# EAGLE library part 685119136923 (library WR-HDMI)
WR-COM Mini HDMI SMT Horizontal <https://www.we-online.com/components/media/o33017v209%20Family_WR-COM_685119136923.jpg> Details see: www.we-online.com/en/components/products/COM_MINI_SMT_HORIZONTAL <www.we-online.com/catalog/COM_MINI_SMT_HORIZONTAL/?utm_source=eagle_model&utm_medium=description_link&utm_campaign=eisos_eagle> Updated by Ella Wu 2023-05-16 2023(C) Würth Elektronik
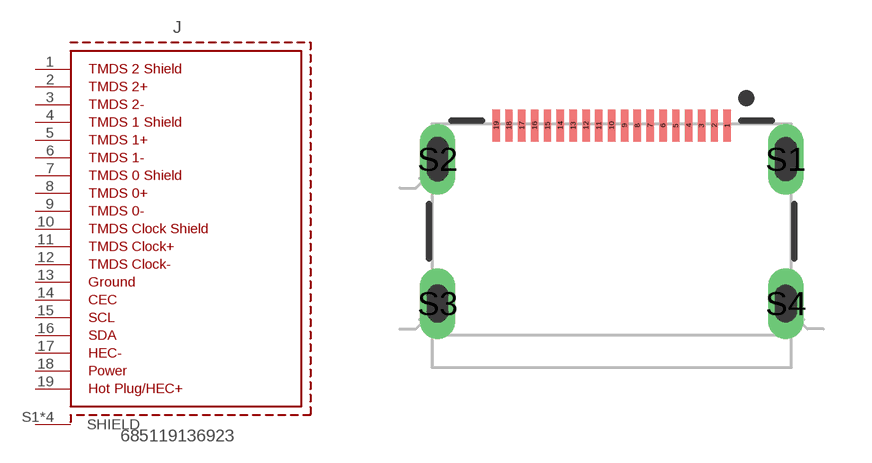
[diagram p3: symbol with the pads of 685119136923; footprint 685119136923]

Designator prefix J

## 685119136923 (DATASHEET-URL: https://www.we-online.com/redexpert/spec/685119136923?ae; GERDER: Receptacle; MOUNT: SMT; PART-NUMBER: 685119136923; PINS: 19; RATED-CURRENT: 0.5A; TYPE: Horizontal; VALUE: 685119136923; WORKING-VOLTAGE: 40VAC)  [685119136923]
1  TMDS2SHIELD  pas
2  TMDS2+  pas
3  TMDS2-  pas
4  TMDS1SHIELD  pas
5  TMDSDATA1+  pas
6  TMDS1-  pas
7  TMDS0SHIELD  pas
8  TMDS0+  pas
9  TMDS0-  pas
10  TMDSCLOCKSHIELD  pas
11  TMDSCLOCK+  pas
12  TMDSCLOCK-  pas
13  GROUND  pas
14  CEC  pas
15  SCL  pas
16  SDA  pas
17  UTILITY/HEAC+  pas
18  POWER  pwr
19  HOTPLUG/HEC+  pas
S1  SHIELD  pas
S2  SHIELD  pas
S3  SHIELD  pas
S4  SHIELD  pas

## Footprint 685119136923 (pad centres in mm)
WR-COM Mini HDMI SMT Horizontal 19 pins
smd 0.23 x 1: 1 3.6,1.05; 2 3.2,1.05; 3 2.8,1.05; 4 2.4,1.05; 5 2,1.05; 6 1.6,1.05; 7 1.2,1.05; 8 0.8,1.05; 9 0.4,1.05; 10 0,1.05; 11 -0.4,1.05; 12 -0.8,1.05; 13 -1.2,1.05; 14 -1.6,1.05; 15 -2,1.05; 16 -2.4,1.05; 17 -2.8,1.05; 18 -3.2,1.05; 19 -3.6,1.05
drill 0.6 pad 0.9 long: S1 5.425,0; S2 -5.425,0
drill 0.6 pad 0.8 long: S3 -5.425,-4.5; S4 5.425,-4.5